# Altium footprint library PCB - SWITCH - C&K PTS810.PcbLib: 1 footprints
Each footprint in its own frame and in the unit in brackets; x right, y up, seen from the top. Pads: shape width x height; smd on the part's side, far side on the other; paste and mask are expansions set on the pad; w line width, h text height; cw(c..) or ccw(c..) is an arc to the next point about the centre after c.
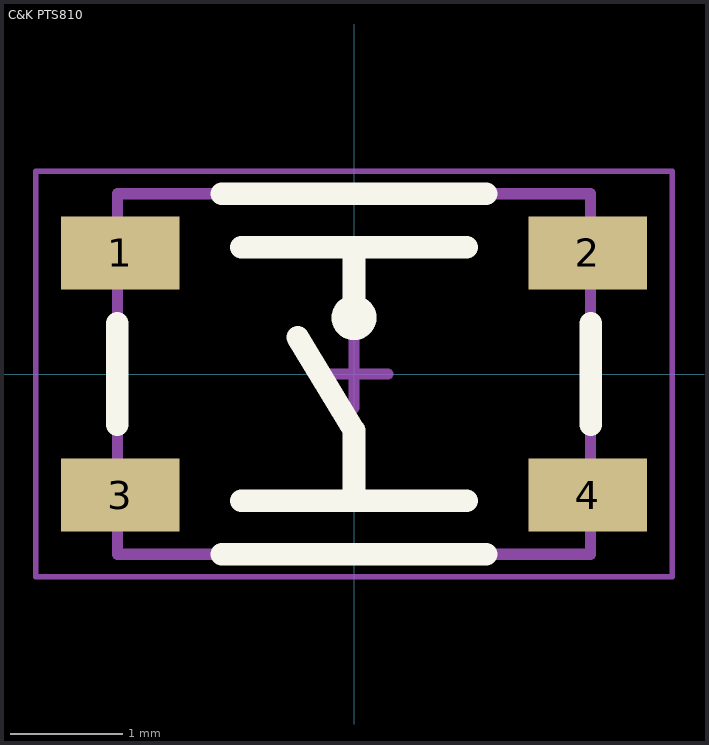
[diagram p0: the footprint, top view; thin cyan lines are the x and y axes]

## C&K PTS810 [mm] "T-Switch, 4-leads, body 4.2x3.2mm, C&K PTS810 SJM 250 SMTR LFS"
height 2.5
pads (4):
  rect 1.05x0.65 smd mask+0.1: 1(-2.075,1.075) 2(2.075,1.075) 3(-2.075,-1.075) 4(2.075,-1.075)
Top Overlay:
  circle w0.2: c0,0.5 r0.1
  lines w0.2: -2.1,-0.45 -2.1,0.45 ; -1.175,-1.6 1.175,-1.6 ; -1.175,1.6 1.175,1.6 ; -1,-1.125 1,-1.125 ; -1,1.125 1,1.125 ; -0.5,0.325 0,-0.5 0,-1.125 ; 0,0.5 0,1.125 ; 2.1,-0.45 2.1,0.45
Mechanical 13:
  lines w0.1: -2.1,-1.6 -2.1,1.6 2.1,1.6 2.1,-1.6 -2.1,-1.6
Mechanical 15 (Mech15):
  lines w0.05: -2.825,-1.8 -2.825,1.8 2.825,1.8 2.825,-1.8 -2.825,-1.8
  lines w0.1: -0.3,0 0.3,0 ; 0,-0.3 0,0.3
3D body "C&K - PTS810.step": height 2.7, standoff 0, extent -2.287,-1.6 2.288,1.6